# Altium footprint library SMT32_BulePill.PcbLib: 12 footprints
Each footprint in its own frame and in the unit in brackets; x right, y up, seen from the top. Pads: shape width x height; smd on the part's side, far side on the other; paste and mask are expansions set on the pad; w line width, h text height; cw(c..) or ccw(c..) is an arc to the next point about the centre after c.
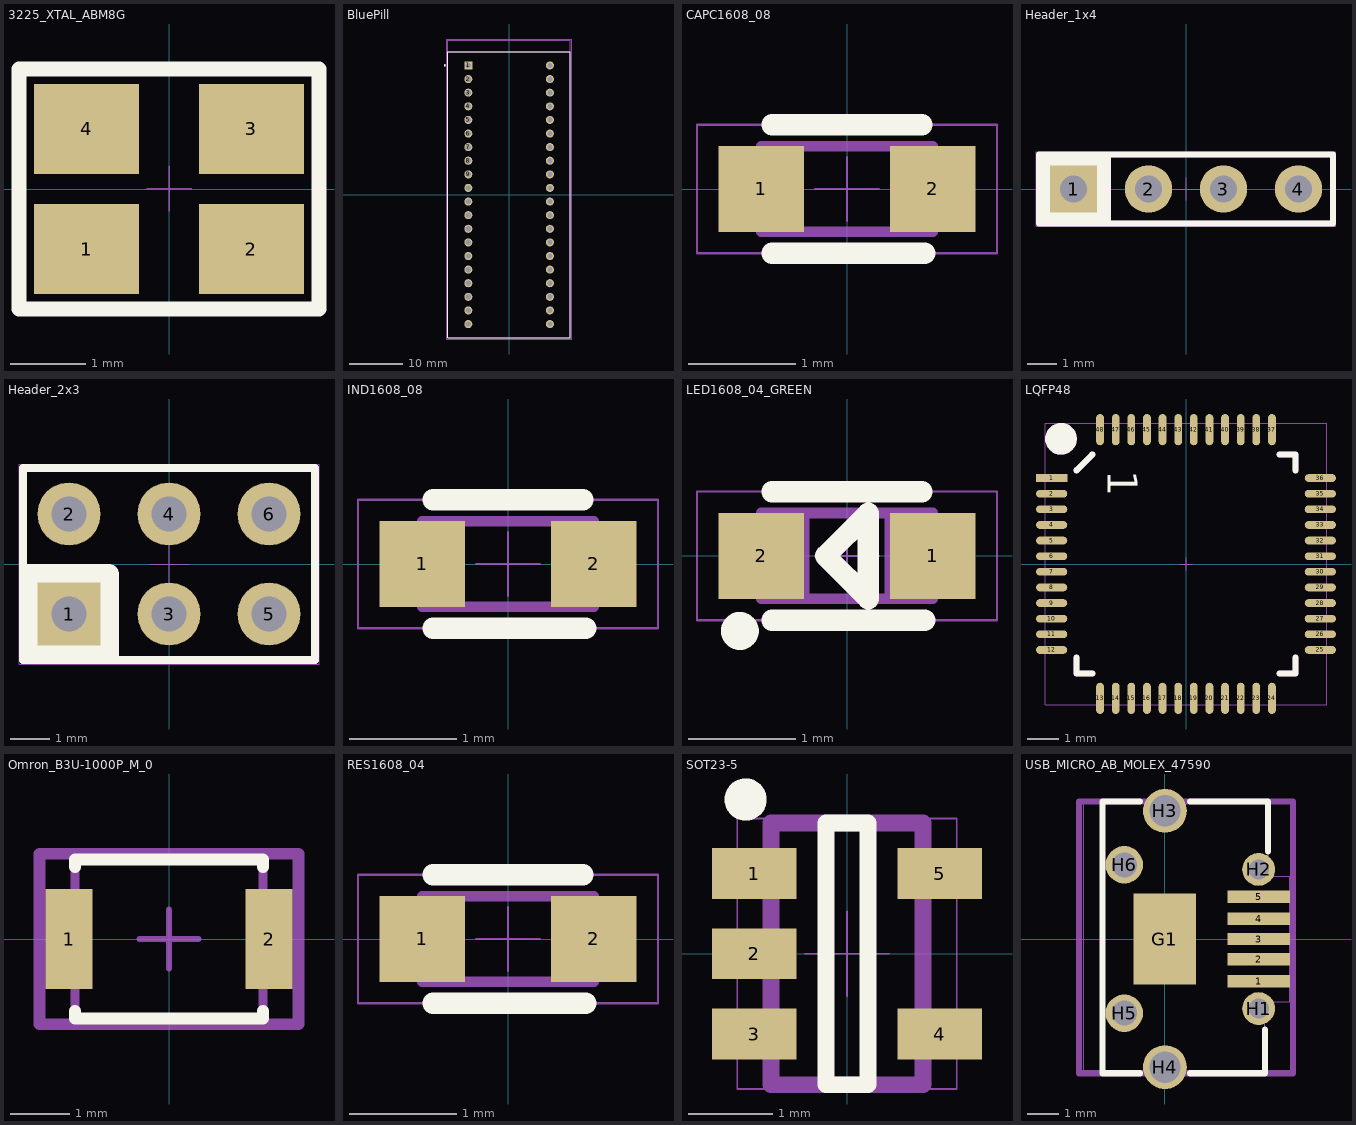
[diagram p0: the footprints below, top view; thin cyan lines are the x and y axes]

## 3225_XTAL_ABM8G [mm] "Crystal 3225"
height 1
pads (4):
  rect 1.4x1.2 smd paste-0.2: 1(-1.1,-0.8) 2(1.1,-0.8) 3(1.1,0.8) 4(-1.1,0.8)
Top Overlay:
  lines w0.2: -2,-1.6 2,-1.6 2,1.6 -2,1.6 -2,-1.6
Mechanical 13:
  lines w0.1: -2,-1.6 -2,1.6 2,1.6 2,-1.6 -2,-1.6
Mechanical 15:
  lines w0.02: -0.3,0 0.3,0 ; 0,-0.3 0,0.3 ; -2,-1.6 -2,1.6 2,1.6 2,-1.6 -2,-1.6
3D body "User Library-ABM8G.STEP": height 1.01, standoff 0, extent -1.6,-1.25 1.6,1.25

## BluePill [mm]
pads (40):
  rect 1.508x1.508 hole 1: 1(-7.62,24.13)
  round 1.508 hole 1: 2(-7.62,21.59) 3(-7.62,19.05) 4(-7.62,16.51) 5(-7.62,13.97) 6(-7.62,11.43) 7(-7.62,8.89) 8(-7.62,6.35) 9(-7.62,3.81) 10(-7.62,1.27) 11(-7.62,-1.27) 12(-7.62,-3.81) 13(-7.62,-6.35) 14(-7.62,-8.89) 15(-7.62,-11.43) 16(-7.62,-13.97) 17(-7.62,-16.51) 18(-7.62,-19.05) 19(-7.62,-21.59) 20(-7.62,-24.13) 21(7.62,-24.13) 22(7.62,-21.59) 23(7.62,-19.05) 24(7.62,-16.51) 25(7.62,-13.97) 26(7.62,-11.43) 27(7.62,-8.89) 28(7.62,-6.35) 29(7.62,-3.81) 30(7.62,-1.27) 31(7.62,1.27) 32(7.62,3.81) 33(7.62,6.35) 34(7.62,8.89) 35(7.62,11.43) 36(7.62,13.97) 37(7.62,16.51) 38(7.62,19.05) 39(7.62,21.59) 40(7.62,24.13)
Top Overlay:
  circle w0.2: c-12,24.13 r0.1
  lines w0.127: -11.43,-26.67 11.43,-26.67 11.43,26.67 -11.43,26.67 -11.43,-26.67
Mechanical 13:
  circle w0.2: c-12,24.13 r0.1
  lines w0.127: -11.43,26.67 -11.43,-26.67 11.43,-26.67 11.43,26.67 ; -11.43,26.67 -11.43,28.82 11.43,28.82 11.43,26.67 ; -11.43,26.67 11.43,26.67
Mechanical 15:
  lines w0.05: -11.68,-26.92 11.68,-26.92 11.68,29.07 -11.68,29.07 -11.68,-26.92

## CAPC1608_08 [mm] "Chip Capacitor, Body 1.6x0.8x0.8mm"
height 0.8
pads (2):
  rect 0.8x0.8 smd: 1(-0.8,0) 2(0.8,0)
Top Overlay:
  lines w0.2: -0.7,-0.6 0.725,-0.6 ; -0.7,0.6 0.7,0.6
Mechanical 13:
  lines w0.1: -0.45,-0.4 -0.45,0.4 ; 0.45,-0.4 0.45,0.4 ; -0.8,-0.4 0.8,-0.4 0.8,0.4 -0.8,0.4 -0.8,-0.4
Mechanical 15:
  lines w0.02: -0.3,0 0.3,0 ; 0,-0.3 0,0.3 ; -1.4,-0.6 1.4,-0.6 1.4,0.6 -1.4,0.6 -1.4,-0.6
3D body "User Library-Chip Cap_MLCC_0603 (1608).STEP": height 0.5, standoff 0, extent -0.8,-0.4 0.8,0.4

## Header_1x4 [mm]
height 5
pads (4):
  rect 1.6x1.6 hole 0.9: 1(-3.81,0)
  round 1.6 hole 0.9: 2(-1.27,0) 3(1.27,0) 4(3.81,0)
Top Overlay:
  lines w0.2: -4.978,-1.168 -4.978,1.168 4.978,1.168 4.978,-1.168 -4.978,-1.168
  lines w0.5: -4.826,-1.016 -4.826,1.016 -2.794,1.016 -2.794,-1.016 -4.826,-1.016
Mechanical 13:
  lines w0.2: -4.978,-1.168 4.978,-1.168 4.978,1.168 -4.978,1.168 -4.978,-1.168
Mechanical 15:
  lines w0.02: -0.508,0 0.508,0 ; 0,-0.381 0,0.381 ; -5.08,-1.27 -5.08,1.27 5.08,1.27 5.08,-1.27 -5.08,-1.27
3D body "61300411121.stp": height 8.57, standoff -2.97, extent -5.08,-1.27 5.08,1.27

## Header_2x3 [mm]
height 5
pads (6):
  rect 1.6x1.6 hole 0.9: 1(-2.54,-1.27)
  round 1.6 hole 0.9: 2(-2.54,1.27) 3(0,-1.27) 4(0,1.27) 5(2.54,-1.27) 6(2.54,1.27)
Top Overlay:
  lines w0.2: -3.708,-2.438 3.708,-2.438 3.708,2.438 -3.708,2.438 -3.708,-2.438
  lines w0.5: -3.556,-2.286 -1.524,-2.286 -1.524,-0.254 -3.556,-0.254 -3.556,-2.286
Mechanical 13:
  lines w0.2: -3.708,-2.438 3.708,-2.438 3.708,2.438 -3.708,2.438 -3.708,-2.438
Mechanical 15:
  lines w0.02: -0.508,0 0.508,0 ; 0,-0.635 0,0.635 ; -3.81,-2.54 3.81,-2.54 3.81,0 3.81,2.54 -3.81,2.54 -3.81,0 -3.81,-2.54
3D body "61300621121.stp": height 7.27, standoff -4.27, extent -3.81,-2.52 3.81,2.56

## IND1608_08 [mm] "Body 1.6x0.8x0.8mm"
height 0.8
pads (2):
  rect 0.8x0.8 smd: 1(-0.8,0) 2(0.8,0)
Top Overlay:
  lines w0.2: -0.7,-0.6 0.725,-0.6 ; -0.7,0.6 0.7,0.6
Mechanical 13:
  lines w0.1: -0.45,-0.4 -0.45,0.4 ; 0.45,-0.4 0.45,0.4 ; -0.8,-0.4 -0.8,0.4 0.8,0.4 0.8,-0.4 -0.8,-0.4
Mechanical 15:
  lines w0.02: -0.3,0 0.3,0 ; 0,-0.3 0,0.3 ; -1.4,-0.6 -1.4,0.6 1.4,0.6 1.4,-0.6 -1.4,-0.6
3D body "ResC1608x38N.STEP": height 0.38, standoff 0, extent -0.8,-0.4 0.8,0.4

## LED1608_04_GREEN [mm] "Chip LED, Body 1.6x0.8x0.4mm"
height 0.4
pads (2):
  rect 0.8x0.8 smd: 1(0.8,0) 2(-0.8,0)
Top Overlay:
  circle w0.254: c-1,-0.7 r0.05
  lines w0.2: -0.7,-0.6 0.725,-0.6 ; -0.7,0.6 0.7,0.6 ; -0.2,0 0.2,0.4 0.2,-0.4 -0.2,0
Mechanical 13:
  lines w0.1: -0.4,-0.4 -0.4,0.4 ; 0.4,-0.4 0.4,0.4 ; -0.8,-0.4 -0.8,0.4 0.8,0.4 0.8,-0.4 -0.8,-0.4
Mechanical 15:
  lines w0.02: -0.3,0 0.3,0 ; 0,-0.3 0,0.3 ; -1.4,-0.6 -1.4,0.6 1.4,0.6 1.4,-0.6 -1.4,-0.6
3D body "User Library-LED_0603_G.STEP": height 0.6, standoff 0, extent -0.8,-0.4 0.8,0.4

## LQFP48 [mm] "48-Lead Plastic LQFP 7x7x1.6mm Body"
height 1.6
pads (48):
  rect 1x0.25 smd mask+0: 1(-4.3,2.75)
  oval 1x0.25 smd mask+0: 2(-4.3,2.25) 3(-4.3,1.75) 4(-4.3,1.25) 5(-4.3,0.75) 6(-4.3,0.25) 7(-4.3,-0.25) 8(-4.3,-0.75) 9(-4.3,-1.25) 10(-4.3,-1.75) 11(-4.3,-2.25) 12(-4.3,-2.75) 25(4.3,-2.75) 26(4.3,-2.25) 27(4.3,-1.75) 28(4.3,-1.25) 29(4.3,-0.75) 30(4.3,-0.25) 31(4.3,0.25) 32(4.3,0.75) 33(4.3,1.25) 34(4.3,1.75) 35(4.3,2.25) 36(4.3,2.75)
  oval 0.25x1 smd mask+0: 13(-2.75,-4.3) 14(-2.25,-4.3) 15(-1.75,-4.3) 16(-1.25,-4.3) 17(-0.75,-4.3) 18(-0.25,-4.3) 19(0.25,-4.3) 20(0.75,-4.3) 21(1.25,-4.3) 22(1.75,-4.3) 23(2.25,-4.3) 24(2.75,-4.3) 37(2.75,4.3) 38(2.25,4.3) 39(1.75,4.3) 40(1.25,4.3) 41(0.75,4.3) 42(0.25,4.3) 43(-0.25,4.3) 44(-0.75,4.3) 45(-1.25,4.3) 46(-1.75,4.3) 47(-2.25,4.3) 48(-2.75,4.3)
Top Overlay:
  circle w0.5: c-4,4.005 r0.255
  lines w0.2: -3.5,-3 -3.5,-3.5 -3,-3.5 ; -3.5,3 -3,3.5 ; 3,-3.5 3.5,-3.5 3.5,-3 ; 3,3.5 3.5,3.5 3.5,3
  text "1" at -2.5,3 h0.95
Mechanical 13:
  circle w0.5: c-4,4.005 r0.255
  lines w0.2: -3.5,-3 -3.5,-3.5 -3,-3.5 ; -3.5,3 -3,3.5 ; 3,-3.5 3.5,-3.5 3.5,-3 ; 3,3.5 3.5,3.5 3.5,3
  text "1" at -2.5,3 h0.95
Mechanical 15:
  lines w0.02: -0.2,0 0.2,0 ; 0,-0.2 0,0.2 ; -4.5,-4.5 -4.5,4.5 4.5,4.5 4.5,-4.5 -4.5,-4.5
3D body "User Library-TQFP-48.STEP": height 1.45, standoff -0.01, extent -4.5,-4.5 4.5,4.5

## Omron_B3U-1000P_M_0 [mm]
pads (2):
  rect 0.8x1.7 smd paste+0 mask+0: 1(-1.7,0) 2(1.7,0)
Top Overlay:
  lines w0.2: -1.6,-1.225 -1.6,-1.35 1.6,-1.35 1.6,-1.225 ; -1.6,1.225 -1.6,1.35 1.6,1.35 1.6,1.225
Mechanical 10:
  lines w0.2: -2.2,-1.45 2.2,-1.45 2.2,1.45 -2.2,1.45 -2.2,-1.45
  text ".Designator" at 0,0 h1
Mechanical 12:
  lines w0.15: -1.6,-1.35 1.6,-1.35 1.6,1.35 -1.6,1.35 -1.6,-1.35
Mechanical 15:
  lines w0.1: -0.5,0 0.5,0 ; 0,-0.5 0,0.5
  lines w0.2: -2.2,-1.45 2.2,-1.45 2.2,1.45 -2.2,1.45 -2.2,-1.45
3D body "B3U-1000P--3DModel-STEP-56544.STEP": height 1.76, standoff 0.01, extent -2,-1.25 2,1.25

## RES1608_04 [mm] "Thick Film Resistor, Body 1.6x0.8x0.45mm"
height 0.45
pads (2):
  rect 0.8x0.8 smd: 1(-0.8,0) 2(0.8,0)
Top Overlay:
  lines w0.2: -0.7,-0.6 0.725,-0.6 ; -0.7,0.6 0.7,0.6
Mechanical 13:
  lines w0.1: -0.45,-0.4 -0.45,0.4 ; 0.45,-0.4 0.45,0.4 ; -0.8,-0.4 0.8,-0.4 0.8,0.4 -0.8,0.4 -0.8,-0.4
Mechanical 15:
  lines w0.02: -0.3,0 0.3,0 ; 0,-0.3 0,0.3 ; -1.4,-0.6 1.4,-0.6 1.4,0.6 -1.4,0.6 -1.4,-0.6
3D body "ResC1608x38N.STEP": height 0.38, standoff 0, extent -0.8,-0.4 0.8,0.4

## SOT23-5 [mm] "SOT23, 5-Leads, Body 2.9x1.6mm, Pitch 0.95mm, Lead Span 2.8mm, IPC Medium Density"
height 1.45
pads (5):
  rect 1x0.6 smd mask+0.03: 1(-1.1,0.95) 2(-1.1,0) 3(-1.1,-0.95) 4(1.1,-0.95) 5(1.1,0.95)
Top Overlay:
  circle w0.25: c-1.2,1.825 r0.125
  lines w0.2: -0.25,-1.55 -0.25,1.55 0.25,1.55 0.25,-1.55 -0.25,-1.55
Mechanical 13:
  lines w0.2: -0.9,-1.55 0.9,-1.55 0.9,1.55 -0.9,1.55 -0.9,-1.55
Mechanical 15:
  lines w0.02: -0.5,0 0.5,0 ; 0,-0.5 0,0.5 ; -1.3,-1.6 1.3,-1.6 1.3,1.6 -1.3,1.6 -1.3,-1.6
3D body "User Library-SOT-23-5.STEP": height 1.45, standoff -0.01, extent -1.5,-1.5 1.5,1.5

## USB_MICRO_AB_MOLEX_47590 [mm] "Micro USB AB Receptacle Top Mount Assy"
height 3
pads (12):
  rect 2x0.4 smd mask+0.025: 1(3,-1.35) 2(3,-0.65) 3(3,0) 4(3,0.65) 5(3,1.35)
  rect 2x2.9 smd mask+0.05: G1(0,0)
  round 1.05 hole 0.65 mask-0.05: H1(3,-2.225) H2(3,2.225)
  round 1.4 hole 1 mask+0.05: H3(0,4.1) H4(0,-4.1)
  round 1.2 hole 0.8 mask+0: H5(-1.3,-2.375) H6(-1.3,2.375)
Top Overlay:
  lines w0.2: -0.8,-4.3 -2,-4.3 -2,4.4 -0.8,4.4 ; 0.8,-4.3 3.2,-4.3 3.2,-2.9 ; 0.8,4.4 3.3,4.4 3.3,2.8
Mechanical 13:
  lines w0.2: -2.75,-4.3 -2.75,4.4 4.1,4.4 4.1,-4.3 -2.75,-4.3
Mechanical 15:
  lines w0.02: -0.2,0 0.2,0 ; 0,-0.2 0,0.2 ; -2.6,-4.3 3.2,-4.3 3.2,-2 4,-2 4,2 3.3,2 3.3,4.4 -2.6,4.4 -2.6,-4.3
3D body "475900001.stp": height 2.76, standoff -0.62, extent -2.625,-4.325 3.175,4.325